# Altium schematic symbol library Power_Integration.SchLib: 2 symbols
Pins are listed as number, name and electrical type; pins without a type are passive.

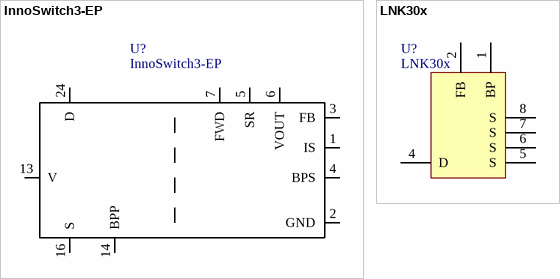
[diagram p0: symbols InnoSwitch3-EP to LNK30x]

## InnoSwitch3-EP
designator U?
footprint InnoSwitch-3_EP
pins: 1 IS, 2 GND, 3 FB, 4 BPS, 5 SR, 6 VOUT, 7 FWD, 13 V, 14 BPP, 16 S, 24 D

## LNK30x
designator U?
Catalog: Farhnell; Catalog number: 1448222; Catalog page: http://lv.farnell.com/power-integrations/lnk304dn/ic-off-line-switcher-120ma-170ma/dp/1448222; Price: 0.863
footprint SO-8C
pins: 1 BP, 2 FB, 4 D, 5 S, 6 S, 7 S, 8 S